# EAGLE library part SPARKFUN_OLED (library Puffin)
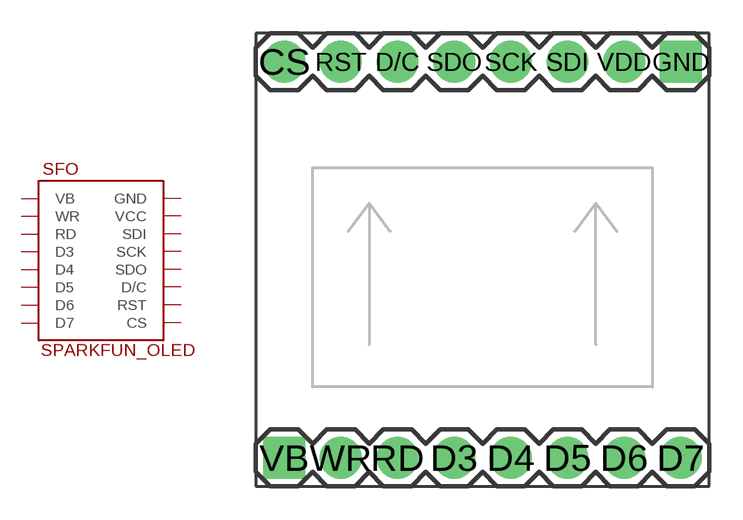
[diagram p4: symbol with the pads of SPARKFUN_OLED; footprint SPARKFUN_OLED]

Designator prefix SFO

## SPARKFUN_OLED  [SPARKFUN_OLED]
CS  CS
D3  D3
D4  D4
D5  D5
D6  D6
D7  D7
D/C  D/C
GND  GND  sup
RD  RD
RST  RST
SCK  SCK
SDI  SDI
SDO  SDO
VB  VB
VDD  VCC  sup
WR  WR

## Footprint SPARKFUN_OLED (pad centres in mm)
drill 1.016 pad 1.88: CS 1.27,19.05; D3 8.89,1.27; D4 11.43,1.27; D5 13.97,1.27; D6 16.51,1.27; D7 19.05,1.27; D/C 6.35,19.05; RD 6.35,1.27; RST 3.81,19.05; SCK 11.43,19.05; SDI 13.97,19.05; SDO 8.89,19.05; VDD 16.51,19.05; WR 3.81,1.27
drill 1.016 pad 1.88 square: GND 19.05,19.05; VB 1.27,1.27